# Altium schematic symbol library DS90UB953TRHBTQ1.SchLib: 1 symbol
Pins are listed as number, name and electrical type; pins without a type are passive.

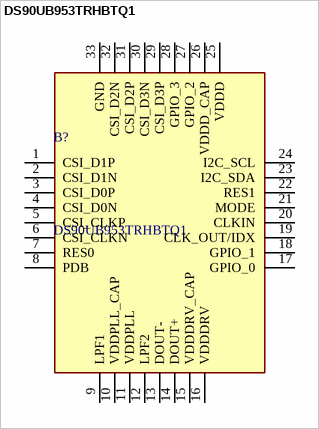
[diagram p0: symbol DS90UB953TRHBTQ1]

## DS90UB953TRHBTQ1
designator B?
2 MP MIPI CSI-2 FPD-Link III serializer for 2MP/60fps cameras & radar; Manufacturer_Name: Texas Instruments; Geometry.Height: 1mm; Mouser Part Number: 595-DS90UB953TRHBTQ1; Mouser Price/Stock: https://www.mouser.co.uk/ProductDetail/Texas-Instruments/DS90UB953TRHBTQ1?qs=OEYMhS7p3YYobKAcq0j91Q%3D%3D; Manufacturer_Part_Number: DS90UB953TRHBTQ1; Datasheet Link: http://www.ti.com/lit/gpn/ds90ub953-q1
footprint QFN50P500X500X100-33N-D
pins: 1 CSI_D1P, 2 CSI_D1N, 3 CSI_D0P, 4 CSI_D0N, 5 CSI_CLKP, 6 CSI_CLKN, 7 RES0, 8 PDB, 9 LPF1, 10 VDDPLL_CAP, 11 VDDPLL, 12 LPF2, 13 DOUT-, 14 DOUT+, 15 VDDDRV_CAP, 16 VDDDRV, 17 GPIO_0, 18 GPIO_1, 19 CLK_OUT/IDX, 20 CLKIN, 21 MODE, 22 RES1, 23 I2C_SDA, 24 I2C_SCL, 25 VDDD, 26 VDDD_CAP, 27 GPIO_2, 28 GPIO_3, 29 CSI_D3P, 30 CSI_D3N, 31 CSI_D2P, 32 CSI_D2N, 33 GND